# Altium footprint library RESC3124X055.PcbLib: 3 footprints
Each footprint in its own frame and in the unit in brackets; x right, y up, seen from the top. Pads: shape width x height; smd on the part's side, far side on the other; paste and mask are expansions set on the pad; w line width, h text height; cw(c..) or ccw(c..) is an arc to the next point about the centre after c.
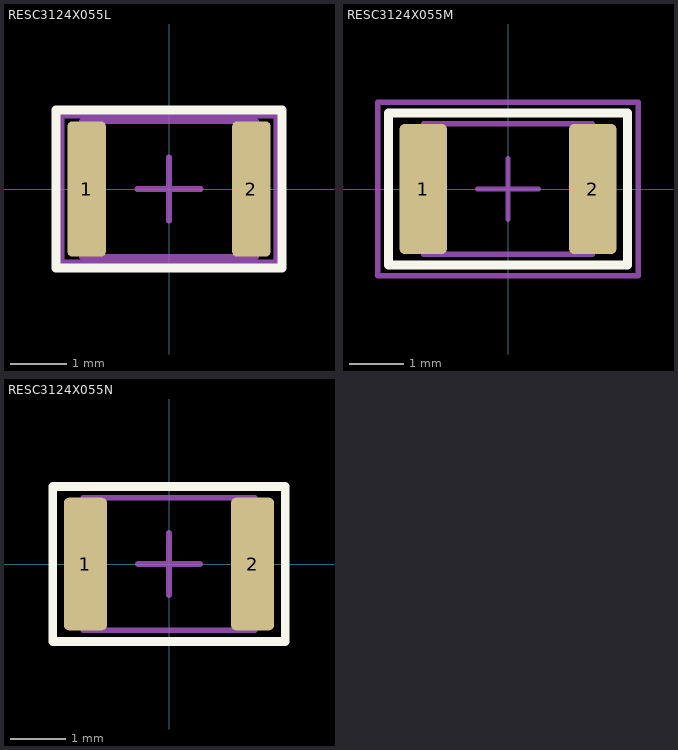
[diagram p0: the footprints below, top view; thin cyan lines are the x and y axes]

## RESC3124X055L [mm] "Resistors, Chip"
height 0.65
pads (2):
  rrect25% 0.68x2.4 smd: 1(-1.46,0) 2(1.46,0)
Top Overlay:
  lines w0.16: -2,-1.4 2,-1.4 2,1.4 -2,1.4 -2,-1.4
Top Component Center:
  lines w0.1: -0.56,0 0.56,0 ; 0,-0.56 0,0.56
Top Courtyard:
  lines w0.1: -1.9,-1.3 1.9,-1.3 1.9,1.3 -1.9,1.3 -1.9,-1.3
Top Assembly:
  lines w0.1: -1.55,-1.2 1.55,-1.2 1.55,1.2 -1.55,1.2 -1.55,-1.2
  text ".Designator" at 0,0 h1
3D body "RESC3124X055L.STEP": height 0.55, standoff 0, extent -1.55,-1.2 1.55,1.2

## RESC3124X055M [mm] "Resistors, Chip"
height 0.65
pads (2):
  rrect25% 0.88x2.4 smd: 1(-1.56,0) 2(1.56,0)
Top Overlay:
  lines w0.16: -2.2,-1.4 2.2,-1.4 2.2,1.4 -2.2,1.4 -2.2,-1.4
Top Component Center:
  lines w0.1: -0.56,0 0.56,0 ; 0,-0.56 0,0.56
Top Courtyard:
  lines w0.1: -2.4,-1.6 2.4,-1.6 2.4,1.6 -2.4,1.6 -2.4,-1.6
Top Assembly:
  lines w0.1: -1.55,-1.2 1.55,-1.2 1.55,1.2 -1.55,1.2 -1.55,-1.2
  text ".Designator" at 0,0 h1
3D body "RESC3124X055M.STEP": height 0.55, standoff 0, extent -1.55,-1.2 1.55,1.2

## RESC3124X055N [mm] "Resistors, Chip"
height 0.65
pads (2):
  rrect25% 0.78x2.4 smd: 1(-1.51,0) 2(1.51,0)
Top Overlay:
  lines w0.16: -2.1,-1.4 2.1,-1.4 2.1,1.4 -2.1,1.4 -2.1,-1.4
Top Component Center:
  lines w0.1: -0.56,0 0.56,0 ; 0,-0.56 0,0.56
Top Courtyard:
  lines w0.1: -2.1,-1.4 2.1,-1.4 2.1,1.4 -2.1,1.4 -2.1,-1.4
Top Assembly:
  lines w0.1: -1.55,-1.2 1.55,-1.2 1.55,1.2 -1.55,1.2 -1.55,-1.2
  text ".Designator" at 0,0 h1
3D body "RESC3124X055N.STEP": height 0.55, standoff 0, extent -1.55,-1.2 1.55,1.2